# EAGLE library part 610X0621821 (library Eagle_BOARD-TO-BOARD_CONNECTORS (rev18b))
WR-PHD 2.54mm SMT Socket Header=>Code : Con_BTB_SHD_2.54_1_SMT_610x0421821(packageing:x = 0: Tube x = 3: Tape & Reel with Cap; 600 pcs/Reel) <http://katalog.we-online.de/media/images/eican/Con_BTB_SHD_2.54_1_SMT_6100xx21821_pf2.jpg> 6100xx21821 Details see: http://katalog.we-online.de/en/em/PHD_2_54_SMT_DUAL_SOCKET_HEADER_6100XX21821 6103xx21821 Details see: http://katalog.we-online.de/en/em/PHD_2_54_SMT_DUAL_SOCKET_HEADER_REEL_6103XX21821 2014 (C) Würth Elektronik
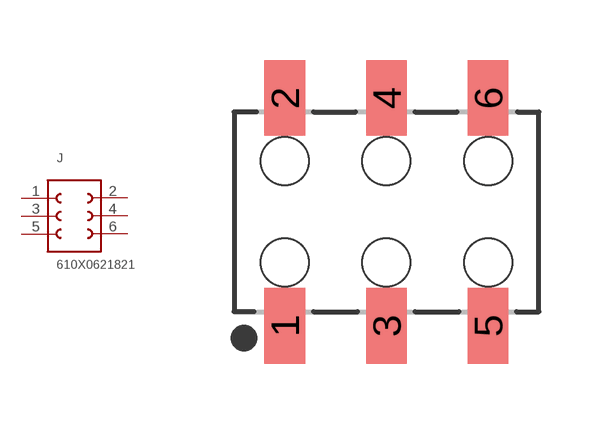
[diagram p201: symbol with the pads of 610X0621821; footprint 610X0621821]

Designator prefix J

## 610X0621821  [610X0621821]
1  1  pas
2  6  pas
3  2  pas
4  5  pas
5  3  pas
6  4  pas

## Footprint 610X0621821 (pad centres in mm)
WR-PHD 2.54mm Dual SMT Socket Header, 6 Pins
smd 1.02 x 1.9: 1 -2.54,-2.85; 2 -2.54,2.85; 3 0,-2.85; 4 0,2.85; 5 2.54,-2.85; 6 2.54,2.85
hole 1.2 at -2.54,-1.27
hole 1.2 at 0,-1.27
hole 1.2 at 0,1.27
hole 1.2 at -2.54,1.27
hole 1.2 at 2.54,-1.27
hole 1.2 at 2.54,1.27